# EAGLE library part MOCD207M (library Lib_Opto_Eletronic_Led_Verde v3)
8- pin SOIC Dual-Channel Phototransistor Output Optocoupler
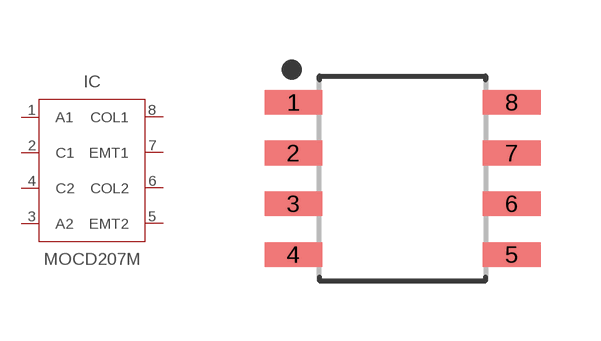
[diagram p4: symbol with the pads of SOIC127P594X363-8N; footprint SOIC127P594X363-8N]

Designator prefix IC

## MOCD207M_SOIC8 (CATEGORY: Opto-Electronic; MANUFACTURER: ON Semiconductor; MPN: MOCD207M; OPERTAING_TEMP: -40 to +100 °C; PART_STATUS: Active; ROHS_COMPLIANT: RoHS3 Compliant; SUB-CATEGORY: OptoCoupler; THERMALLOSS: 0.24W; VALUE: MOCD207M)  [SOIC127P594X363-8N]
1  A1
2  C1
3  A2
4  C2
5  EMT2  out
6  COL2  in
7  EMT1  out
8  COL1  in

## Footprint SOIC127P594X363-8N (pad centres in mm)
8-SOIC, 1.27 mm pitch, 5.94 mm span, 4.88 X 3.91 X 3.63 mm body 8-pin SOIC package with 1.27 mm pitch, 5.94 mm span with body size 4.88 X 3.91 X 3.63 mm
smd 1.44 x 0.614: 1 -2.731,1.905; 2 -2.731,0.635; 3 -2.731,-0.635; 4 -2.731,-1.905; 5 2.731,-1.905; 6 2.731,-0.635; 7 2.731,0.635; 8 2.731,1.905